# EAGLE library part XF2*-25? (library con-omron)
OMRON FPC Connector Source : http://www.omron.com/ecb/products/pdf/fpc.pdf
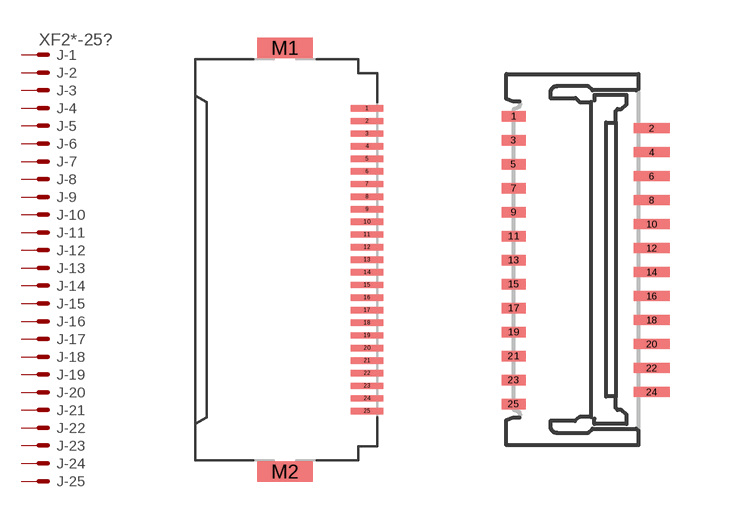
[diagram p18: symbol with the pads of XF2H-2515-1LW; footprints XF2H-2515-1LW, XF2C-2555-41A]

Designator prefix J; gates -1=PV -2=P -3=P -4=P -5=P -6=P -7=P -8=P -9=P -10=P -11=P -12=P -13=P -14=P -15=P -16=P -17=P -18=P -19=P -20=P -21=P -22=P -23=P -24=P -25=P

## XF2H-2515-1LW  [XF2H-2515-1LW]
1  -1:MSV  pas
2  -2:MS  pas
3  -3:MS  pas
4  -4:MS  pas
5  -5:MS  pas
6  -6:MS  pas
7  -7:MS  pas
8  -8:MS  pas
9  -9:MS  pas
10  -10:MS  pas
11  -11:MS  pas
12  -12:MS  pas
13  -13:MS  pas
14  -14:MS  pas
15  -15:MS  pas
16  -16:MS  pas
17  -17:MS  pas
18  -18:MS  pas
19  -19:MS  pas
20  -20:MS  pas
21  -21:MS  pas
22  -22:MS  pas
23  -23:MS  pas
24  -24:MS  pas
25  -25:MS  pas

## XF2C-2555-41A  [XF2C-2555-41A]
Pads as for XF2H-2515-1LW

## Footprint XF2H-2515-1LW (pad centres in mm)
Standard Rotary Backlock Type (0.5 mm-pitch) Source : http://www.omron.com/ecb/products/pdf/fpc.pdf
smd 1.3 x 0.25: 1 3.175,6; 2 3.175,5.5; 3 3.175,5; 4 3.175,4.5; 5 3.175,4; 6 3.175,3.5; 7 3.175,3; 8 3.175,2.5; 9 3.175,2; 10 3.175,1.5; 11 3.175,1; 12 3.175,0.5; 13 3.175,0; 14 3.175,-0.5; 15 3.175,-1; 16 3.175,-1.5; 17 3.175,-2; 18 3.175,-2.5; 19 3.175,-3; 20 3.175,-3.5; 21 3.175,-4; 22 3.175,-4.5; 23 3.175,-5; 24 3.175,-5.5; 25 3.175,-6
smd 2.2 x 0.8: M1 -0.075,8.4; M2 -0.075,-8.4

## Footprint XF2C-2555-41A (pad centres in mm)
Low-profile Rotary Backlock Type (0.3 mm-pitch) Source : http://www.omron.com/ecb/products/pdf/fpc.pdf
smd 0.6 x 0.26: 1 -1.8,3.6; 3 -1.8,3; 5 -1.8,2.4; 7 -1.8,1.8; 9 -1.8,1.2; 11 -1.8,0.6; 13 -1.8,0; 15 -1.8,-0.6; 17 -1.8,-1.2; 19 -1.8,-1.8; 21 -1.8,-2.4; 23 -1.8,-3; 25 -1.8,-3.6
smd 0.9 x 0.25: 2 1.65,3.3; 4 1.65,2.7; 6 1.65,2.1; 8 1.65,1.5; 10 1.65,0.9; 12 1.65,0.3; 14 1.65,-0.3; 16 1.65,-0.9; 18 1.65,-1.5; 20 1.65,-2.1; 22 1.65,-2.7; 24 1.65,-3.3